# EAGLE library part USB4056-03-A_REVA2 (library USB4056-03-A_REVA2)
Check availability <https://pricing.snapeda.com/parts/USB4056-03-A/Global%20Connector%20Technology/view-part?ref=eda>
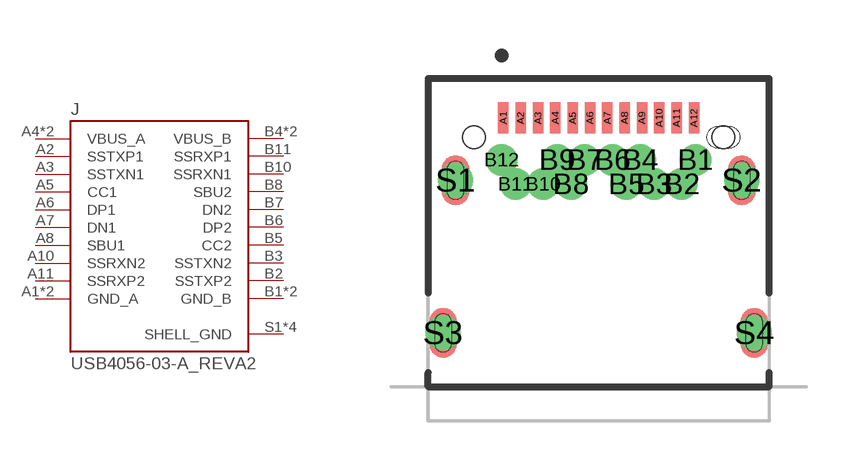
[diagram p0: symbol with the pads of GCT_USB4056-03-A_REVA2; footprint GCT_USB4056-03-A_REVA2]

Designator prefix J

## USB4056-03-A_REVA2 (Availability: In Stock; Description: USB-C (USB TYPE-C) USB 3.2 Gen 2 (USB 3.1 Gen 2, Superspeed + (USB 3.1)) Receptacle Connector 24 Position Surface Mount, Right Angle; Through Hole; MF: Global Connector Technology; MP: USB4056-03-A; Package: None; Price: None)  [GCT_USB4056-03-A_REVA2]
A1  GND_A  pwr
A2  SSTXP1
A3  SSTXN1
A4  VBUS_A  pwr
A5  CC1
A6  DP1
A7  DN1
A8  SBU1
A9  VBUS_A  pwr
A10  SSRXN2
A11  SSRXP2
A12  GND_A  pwr
B1  GND_B  pwr
B2  SSTXP2
B3  SSTXN2
B4  VBUS_B  pwr
B5  CC2
B6  DP2
B7  DN2
B8  SBU2
B9  VBUS_B  pwr
B10  SSRXN1
B11  SSRXP1
B12  GND_B  pwr
S1  SHELL_GND  pwr
S2  SHELL_GND  pwr
S3  SHELL_GND  pwr
S4  SHELL_GND  pwr

## Footprint GCT_USB4056-03-A_REVA2 (pad centres in mm)
smd 0.3 x 0.9: A1 -2.75,6.2; A2 -2.25,6.2; A3 -1.75,6.2; A4 -1.25,6.2; A5 -0.75,6.2; A6 -0.25,6.2; A7 0.25,6.2; A8 0.75,6.2; A9 1.25,6.2; A10 1.75,6.2; A11 2.25,6.2; A12 2.75,6.2
drill 0.4 pad 0.6: B1 2.8,4.99; B2 2.4,4.29; B3 1.6,4.29; B4 1.2,4.99; B5 0.8,4.29; B6 0.4,4.99; B7 -0.4,4.99; B8 -0.8,4.29; B9 -1.2,4.99; B10 -1.6,4.29; B11 -2.4,4.29; B12 -2.8,4.99
drill 0.5 pad 0.8: S1 -4.13,4.4; S2 4.13,4.4; S3 -4.49,0; S4 4.49,0
hole 0.65 at 3.6,5.64
hole 0.65 at -3.6,5.64